# Altium footprint library PcbLib1.PcbLib: 1 footprints
Each footprint in its own frame and in the unit in brackets; x right, y up, seen from the top. Pads: shape width x height; smd on the part's side, far side on the other; paste and mask are expansions set on the pad; w line width, h text height; cw(c..) or ccw(c..) is an arc to the next point about the centre after c.
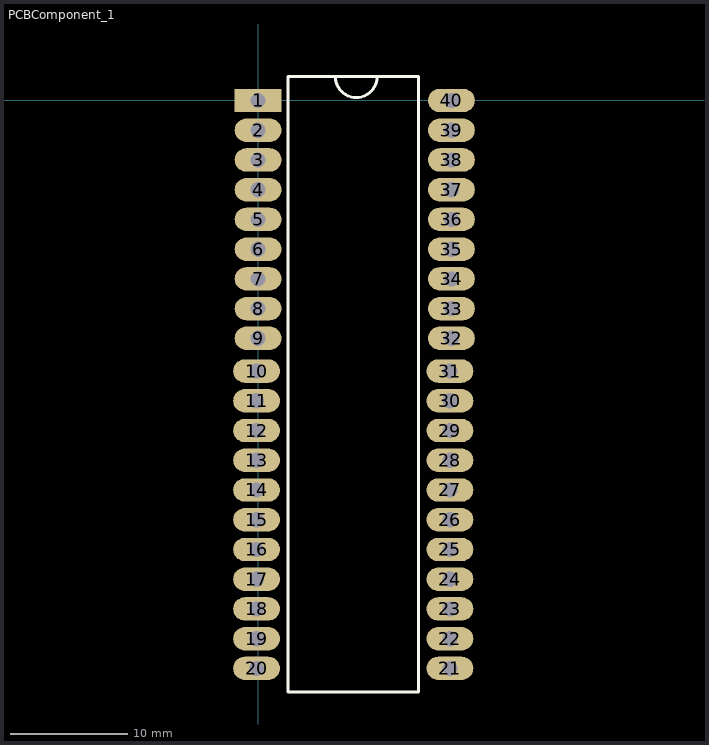
[diagram p0: the footprint, top view; thin cyan lines are the x and y axes]

## PCBComponent_1 [mm]
pads (40):
  rect 4x2 hole 1.3: 1(0,0)
  oval 4x2 hole 1.3: 2(0,-2.54) 3(0,-5.08) 4(0,-7.62) 5(0,-10.16) 6(0,-12.7) 7(0,-15.24) 8(0,-17.78) 9(0,-20.32) 10(-0.127,-23.114) 11(-0.127,-25.654) 12(-0.127,-28.194) 13(-0.127,-30.734) 14(-0.127,-33.274) 15(-0.127,-35.814) 16(-0.127,-38.354) 17(-0.127,-40.894) 18(-0.127,-43.434) 19(-0.127,-45.974) 20(-0.127,-48.514) 21(16.383,-48.514) 22(16.383,-45.974) 23(16.383,-43.434) 24(16.383,-40.894) 25(16.383,-38.354) 26(16.383,-35.814) 27(16.383,-33.274) 28(16.383,-30.734) 29(16.383,-28.194) 30(16.383,-25.654) 31(16.383,-23.114) 32(16.51,-20.32) 33(16.51,-17.78) 34(16.51,-15.24) 35(16.51,-12.7) 36(16.51,-10.16) 37(16.51,-7.62) 38(16.51,-5.08) 39(16.51,-2.54) 40(16.51,0)
Top Overlay:
  lines w0.254: 2.54,-0.254 2.54,2.032 13.716,2.032 13.716,1.016 ; 2.54,0.127 2.54,-50.546 13.716,-50.546 ; 6.604,2.032 ccw(c8.384,2.034) 10.165,2.032 ; 13.716,-48.514 13.716,-50.546 ; 13.716,1.778 13.716,-50.546